# Altium schematic symbol library Schlib1.SchLib: 1 symbol
Pins are listed as number, name and electrical type; pins without a type are passive.

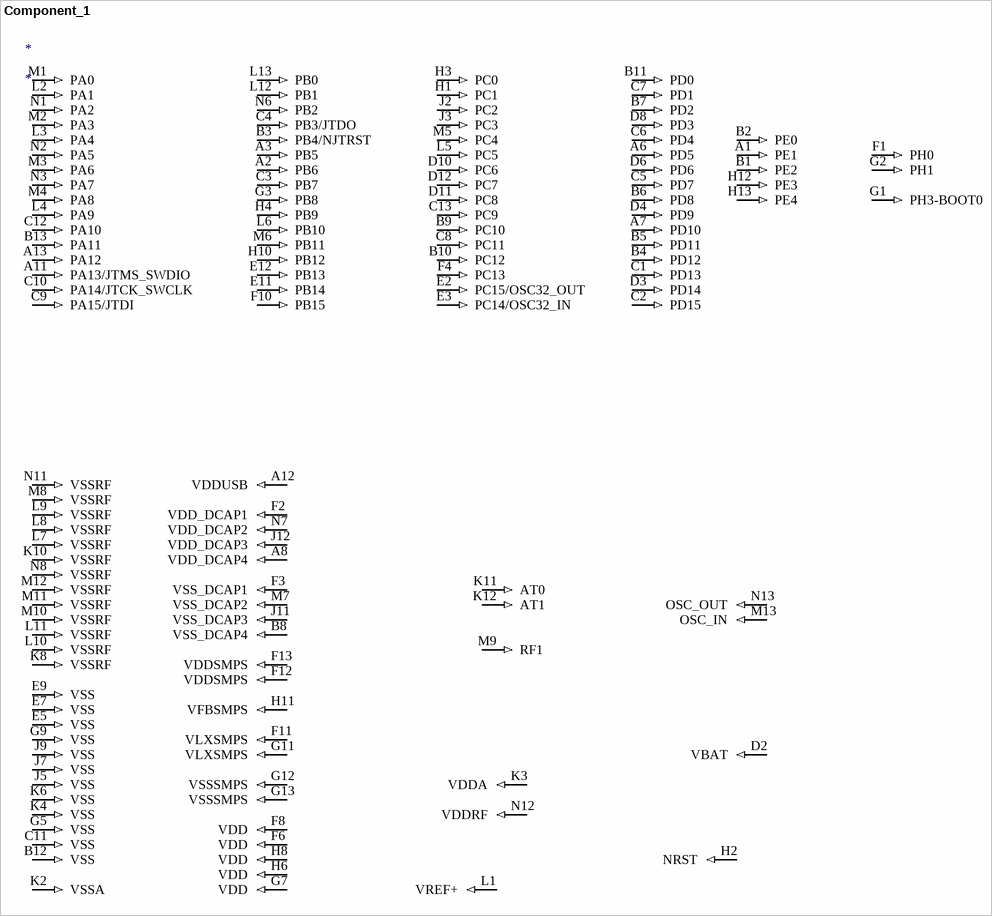
[diagram p0: symbol Component_1]

## Component_1
designator *
pins: A1 PE1 (in), A2 PB6 (in), A3 PB5 (in), A6 PD5 (in), A7 PD10 (in), A8 VDD_DCAP4 (in), A11 PA13/JTMS_SWDIO (in), A12 VDDUSB (in), A13 PA12 (in), B1 PE2 (in), B2 PE0 (in), B3 PB4/NJTRST (in), B4 PD12 (in), B5 PD11 (in), B6 PD8 (in), B7 PD2 (in), B8 VSS_DCAP4 (in), B9 PC10 (in), B10 PC12 (in), B11 PD0 (in), B12 VSS (in), B13 PA11 (in), C1 PD13 (in), C2 PD15 (in), C3 PB7 (in), C4 PB3/JTDO (in), C5 PD7 (in), C6 PD4 (in), C7 PD1 (in), C8 PC11 (in), C9 PA15/JTDI (in), C10 PA14/JTCK_SWCLK (in), C11 VSS (in), C12 PA10 (in), C13 PC9 (in), D2 VBAT (in), D3 PD14 (in), D4 PD9 (in), D6 PD6 (in), D8 PD3 (in), D10 PC6 (in), D11 PC8 (in), D12 PC7 (in), E2 PC15/OSC32_OUT (in), E3 PC14/OSC32_IN (in), E5 VSS (in), E7 VSS (in), E9 VSS (in), E11 PB14 (in), E12 PB13 (in), F1 PH0 (in), F2 VDD_DCAP1 (in), F3 VSS_DCAP1 (in), F4 PC13 (in), F6 VDD (in), F8 VDD (in), F10 PB15 (in), F11 VLXSMPS (in), F12 VDDSMPS (in), F13 VDDSMPS (in), G1 PH3-BOOT0 (in), G2 PH1 (in), G3 PB8 (in), G5 VSS (in), G7 VDD (in), G9 VSS (in), G11 VLXSMPS (in), G12 VSSSMPS (in), G13 VSSSMPS (in), H1 PC1 (in), H2 NRST (in), H3 PC0 (in), H4 PB9 (in), H6 VDD (in), H8 VDD (in), H10 PB12 (in), H11 VFBSMPS (in), H12 PE3 (in), H13 PE4 (in), J2 PC2 (in), J3 PC3 (in), J5 VSS (in), J7 VSS (in), J9 VSS (in), J11 VSS_DCAP3 (in), J12 VDD_DCAP3 (in), K2 VSSA (in), K3 VDDA (in), K4 VSS (in), K6 VSS (in), K8 VSSRF (in), K10 VSSRF (in), K11 AT0 (in), K12 AT1 (in), L1 VREF+ (in), L2 PA1 (in), L3 PA4 (in), L4 PA9 (in), L5 PC5 (in), L6 PB10 (in), L7 VSSRF (in), L8 VSSRF (in), L9 VSSRF (in), L10 VSSRF (in), L11 VSSRF (in), L12 PB1 (in), L13 PB0 (in), M1 PA0 (in), M2 PA3 (in), M3 PA6 (in), M4 PA8 (in), M5 PC4 (in), M6 PB11 (in), M7 VSS_DCAP2 (in), M8 VSSRF (in), M9 RF1 (in), M10 VSSRF (in), M11 VSSRF (in), M12 VSSRF (in), M13 OSC_IN (in), N1 PA2 (in), N2 PA5 (in), N3 PA7 (in), N6 PB2 (in), N7 VDD_DCAP2 (in), N8 VSSRF (in), N11 VSSRF (in), N12 VDDRF (in), N13 OSC_OUT (in)